# Altium schematic symbol library SCH - POWER - SWITCHMODE - TI TPS51116_PWP_20.SchLib: 1 symbol
Pins are listed as number, name and electrical type; pins without a type are passive.

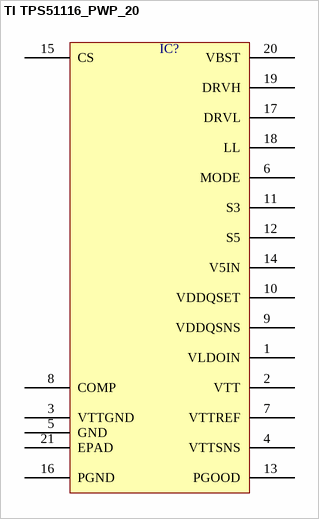
[diagram p0: symbol TI TPS51116_PWP_20]

## TI TPS51116_PWP_20
designator IC?  (value not drawn)
pins: 1 VLDOIN, 2 VTT, 3 VTTGND, 4 VTTSNS, 5 GND, 6 MODE, 7 VTTREF, 8 COMP, 9 VDDQSNS, 10 VDDQSET, 11 S3, 12 S5, 13 PGOOD, 14 V5IN, 15 CS, 16 PGND, 17 DRVL, 18 LL, 19 DRVH, 20 VBST, 21 EPAD